# Altium schematic symbol library RF.SchLib: 5 symbols
Pins are listed as number, name and electrical type; pins without a type are passive.

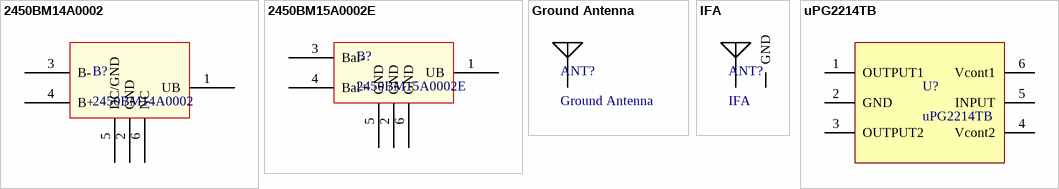
[diagram p0: symbols 2450BM14A0002 to uPG2214TB]

## 2450BM14A0002
designator B?
2.45 GHz Balun for nRF8001; Supplier 1: Digi-Key; Supplier Part Number 1: 712-1574-1-ND
footprint 2450BM14A0002 (Chip Array, Flat, 6-Leads, Pitch 0.50mm,  Body 1.60x0.80mm,  IPC Medium Density)
pins: 1 UB, 2 GND, 3 B-, 4 B+, 5 DC/GND, 6 NC

## 2450BM15A0002E
designator B?
2.45 GHz Balun for TI CC253X; Supplier 1: Digi-Key; Supplier Part Number 1: 712-1536-1-ND
footprint 2450BM15A0002 (Chip Array, Flat, 6-Leads, Pitch 0.65mm,  Body 2.00x1.25mm,  IPC Medium Density)
pins: 1 UB, 2 GND, 3 Bal-, 4 Bal+, 5 GND, 6 GND

## Ground Antenna
designator ANT?
2.4GHz Surface Mount Device (SMD) On Ground Antenna, 50 Ohms; Supplier 1: RichardsonRFPD; Supplier Part Number 1: FR05-S1-N-0102B
footprint Chip Antenna (FR05-S1-N-0-102)
pins: 1

## IFA
designator ANT?
Inverted F Antenna (IFA)
footprint Inverted F Antenna
pins: GND (power), SIG

## uPG2214TB
designator U?
GaAs Integrated Circuit for L, S-Band SPDT Switch; Supplier 1: Digi-Key; Supplier Part Number 1: UPG2214TB-E4-ACT-ND
footprint minimold-6 (SOTFL, 6-Leads, Body 2.00x2.10mm, Pitch 0.65mm, IPC Medium Density)
pins: 1 OUTPUT1 (power), 2 GND (power), 3 OUTPUT2 (power), 4 Vcont2 (power), 5 INPUT (power), 6 Vcont1 (power)